# Altium schematic symbol library mainLib.SchLib: 6 symbols
Pins are listed as number, name and electrical type; pins without a type are passive.

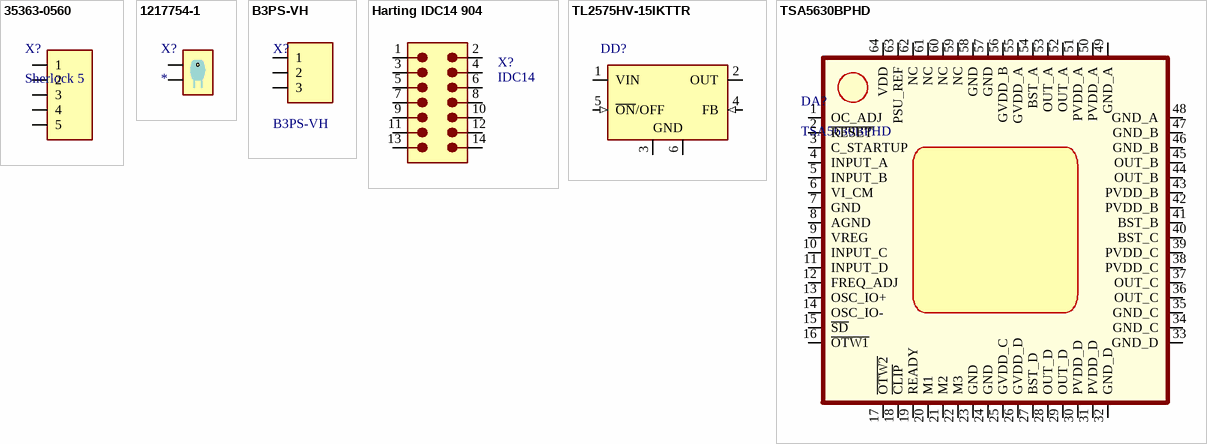
[diagram p0: symbols 35363-0560 to TSA5630BPHD]

## 35363-0560
designator X?, comment Sherlock 5
Sherlock 5 Side, 2A 125V 2mm; PartNumber: 35363-0560; Manufacturer: MOLEX
footprint 35363-0560
pins: 1, 2, 3, 4, 5

## 1217754-1
designator X?
Angle 90, PCB mount, 6.3x0.8; Manufacturer: TE Connectivity; PartNumber: 1217754-1
footprint 1217754-1
pins: 1, 2

## B3PS-VH
designator X?
VH Side, 10A 250V 3.96mm; Manufacturer: JST; PartNumber: B3PS-VH
footprint B3PS-VH
pins: 1, 2, 3

## Harting IDC14 904
designator X?, comment IDC14
Flat Cable Connector (IDC), Standard Male Header, Straight Solder Pin, 14 Contacts, Long Levers, Performance Level 2; PartNumber: 09 18 514 6904; PCB_Layout: Complies with manufacturer's recommendation.; DrillSize: Corresponds to nominal value.; Published: 15-Nov-2004; DatasheetDocument: Sep-2003; PackageDocument: Jun-2000; PackageReference: 918514x904; Publisher: Altium Limited; ComponentLink1Description: Manufacturer Link; ComponentLink1URL: http://www.harting.com/; ComponentLink2Description: Selection Guide; ComponentLink2URL: http://www.harting.com/imperia/md/content/steckverbinderundsystemkomponenten/folder/interface_engl_chapter_09.pdf
footprint 918514x904 (Connector; IDC, Thru-Hole; 14 Position; Vertical; Pitch 2.54 mm; Body 37.40 x 8.5 x 25.75 mm (LxWxH), Locking levers)
pins: 1, 2, 3, 4, 5, 6, 7, 8, 9, 10, 11, 12, 13, 14

## TL2575HV-15IKTTR
designator DD?
Buck Step Down Regulator with 4.75 to 60 V Input and 15 V Output, -40 to 125 degC, 5-Pin DDPAK/TO-263 (KTT), Green (RoHS & no Sb/Br); Manufacturer: Texas Instruments; PartNumber: TL2575HV-15IKTTR
footprint KTT5_N (D2-PAK, 6-Leads, Body 8.9x10.2mm, Pitch 1.7mm, Lead Span 15.2mm, IPC Medium Density)
footprint KTT5_L (D2-PAK, 6-Leads, Body 8.9x10.2mm, Pitch 1.7mm, Lead Span 15.2mm, IPC High Density)
footprint KTT5_M (D2-PAK, 6-Leads, Body 8.9x10.2mm, Pitch 1.7mm, Lead Span 15.2mm, IPC Low Density)
pins: 1 VIN (power), 2 OUT (power), 3 GND (power), 4 FB (in), 5 ~{ON}/OFF (in), 6 GND (power)

## TSA5630BPHD
designator DA?
Power amplifier 2x300 W class-D; Manufacturer: Texas Instruments; PartNumber: TSA5630BPHD
footprint TI-PHD64_M (QFP, 64-Leads, Body 14x14mm, Pitch 0.8mm, IPC Low Density)
pins: 1 OC_ADJ, 2 ~{RESET}, 3 C_STARTUP, 4 INPUT_A, 5 INPUT_B, 6 VI_CM, 7 GND, 8 AGND, 9 VREG, 10 INPUT_C, 11 INPUT_D, 12 FREQ_ADJ, 13 OSC_IO+, 14 OSC_IO-, 15 ~{SD}, 16 ~{OTW1}, 17 ~{OTW2}, 18 ~{CLIP}, 19 READY, 20 M1, 21 M2, 22 M3, 23 GND, 24 GND, 25 GVDD_C, 26 GVDD_D, 27 BST_D, 28 OUT_D, 29 OUT_D, 30 PVDD_D, 31 PVDD_D, 32 GND_D, 33 GND_D, 34 GND_C, 35 GND_C, 36 OUT_C, 37 OUT_C, 38 PVDD_C, 39 PVDD_C, 40 BST_C, 41 BST_B, 42 PVDD_B, 43 PVDD_B, 44 OUT_B, 45 OUT_B, 46 GND_B, 47 GND_B, 48 GND_A, 49 GND_A, 50 PVDD_A, 51 PVDD_A, 52 OUT_A, 53 OUT_A, 54 BST_A, 55 GVDD_A, 56 GVDD_B, 57 GND, 58 GND, 59 NC, 60 NC, 61 NC, 62 NC, 63 PSU_REF, 64 VDD